# EAGLE library part MICROCLASP-38-DUAL (library Molex)
Molex MicroClasp 38-position header, dual row, right angle, through hole Molex part number: 55959-3830 Drawing: http://www.molex.com/pdm_docs/sd/559593830_sd.pdf
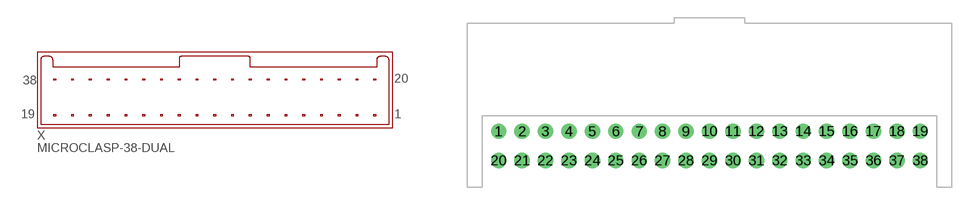
[diagram p14: symbol with the pads of MICROCLASP-38-DUAL-RA; footprint MICROCLASP-38-DUAL-RA]

Designator prefix X

## MICROCLASP-38-DUAL  [MICROCLASP-38-DUAL-RA]
1  1
2  2
3  3
4  4
5  5
6  6
7  7
8  8
9  9
10  10
11  11
12  12
13  13
14  14
15  15
16  16
17  17
18  18
19  19
20  20
21  21
22  22
23  23
24  24
25  25
26  26
27  27
28  28
29  29
30  30
31  31
32  32
33  33
34  34
35  35
36  36
37  37
38  38

## Footprint MICROCLASP-38-DUAL-RA (pad centres in mm)
Molex MicroClasp 38-position header, dual row, right angle, through hole Molex part number: 55959-3830 Drawing: http://www.molex.com/pdm_docs/sd/559593830_sd.pdf
drill 0.8 round: 1 -18,0; 2 -16,0; 3 -14,0; 4 -12,0; 5 -10,0; 6 -8,0; 7 -6,0; 8 -4,0; 9 -2,0; 10 0,0; 11 2,0; 12 4,0; 13 6,0; 14 8,0; 15 10,0; 16 12,0; 17 14,0; 18 16,0; 19 18,0; 20 -18,-2.5; 21 -16,-2.5; 22 -14,-2.5; 23 -12,-2.5; 24 -10,-2.5; 25 -8,-2.5; 26 -6,-2.5; 27 -4,-2.5; 28 -2,-2.5; 29 0,-2.5; 30 2,-2.5; 31 4,-2.5; 32 6,-2.5; 33 8,-2.5; 34 10,-2.5; 35 12,-2.5; 36 14,-2.5; 37 16,-2.5; 38 18,-2.5